# Altium schematic symbol library SN74LVC1G17DBVR.SchLib: 1 symbol
Pins are listed as number, name and electrical type; pins without a type are passive.

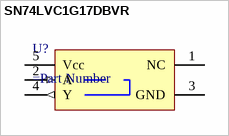
[diagram p0: symbol SN74LVC1G17DBVR]

## SN74LVC1G17DBVR
designator U?
=Description
pins: 1 NC, 2 A (in), 3 GND (power), 4 Y (out), 5 Vcc (power)